# EAGLE library part E220-400T22S (library UNKNOWN-2024)
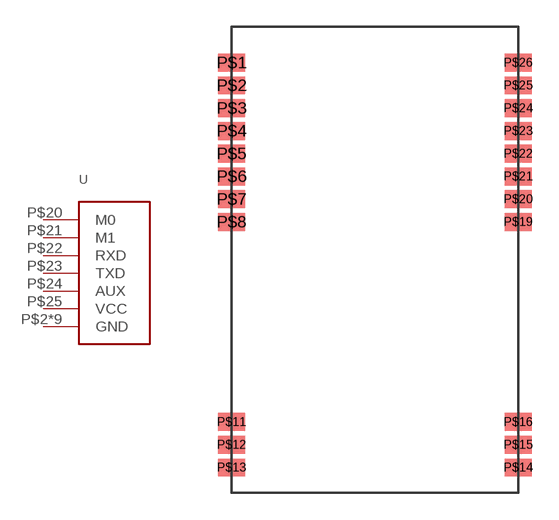
[diagram p23: symbol with the pads of E220-400T22S; footprint E220-400T22S]

Designator prefix -

## E220-400T22S  [E220-400T22S]
P$2  GND
P$8  GND
P$11  GND
P$13  GND
P$14  GND
P$15  GND
P$16  GND
P$19  GND
P$20  M0
P$21  M1
P$22  RXD
P$23  TXD
P$24  AUX
P$25  VCC
P$26  GND

## Footprint E220-400T22S (pad centres in mm)
smd 1.5 x 1: P$1 -8,11; P$2 -8,9.73; P$3 -8,8.46; P$4 -8,7.19; P$5 -8,5.92; P$6 -8,4.65; P$7 -8,3.38; P$8 -8,2.11; P$11 -8,-9.06; P$12 -8,-10.33; P$13 -8,-11.6; P$14 8,-11.6; P$15 8,-10.33; P$16 8,-9.06; P$19 8,2.11; P$20 8,3.38; P$21 8,4.65; P$22 8,5.92; P$23 8,7.19; P$24 8,8.46; P$25 8,9.73; P$26 8,11